# EAGLE library part TMG3993 (library gee_s)
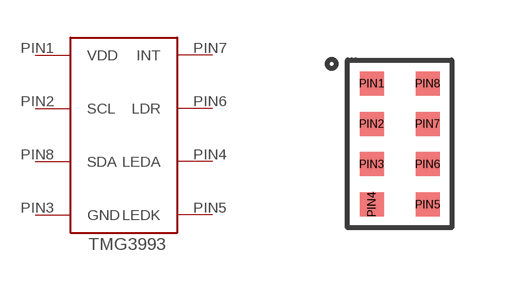
[diagram p22: symbol with the pads of TMG3993; footprint TMG3993]

Designator prefix -

## TMG3993  [TMG3993]
PIN1  VDD
PIN2  SCL
PIN3  GND
PIN4  LEDA
PIN5  LEDK
PIN6  LDR
PIN7  INT
PIN8  SDA

## Footprint TMG3993 (pad centres in mm)
smd 0.6 x 0.6: PIN1 -0.7,1.01; PIN2 -0.7,0; PIN3 -0.7,-1.01; PIN4 -0.7,-2.02; PIN5 0.7,-2.02; PIN6 0.7,-1.01; PIN7 0.7,0; PIN8 0.7,1.01